# Altium footprint library SG__PCB_QFN_DFN.PcbLib: 60 footprints (part 3 of 4)
Each footprint in its own frame and in the unit in brackets; x right, y up, seen from the top. Pads: shape width x height; smd on the part's side, far side on the other; paste and mask are expansions set on the pad; w line width, h text height; cw(c..) or ccw(c..) is an arc to the next point about the centre after c.
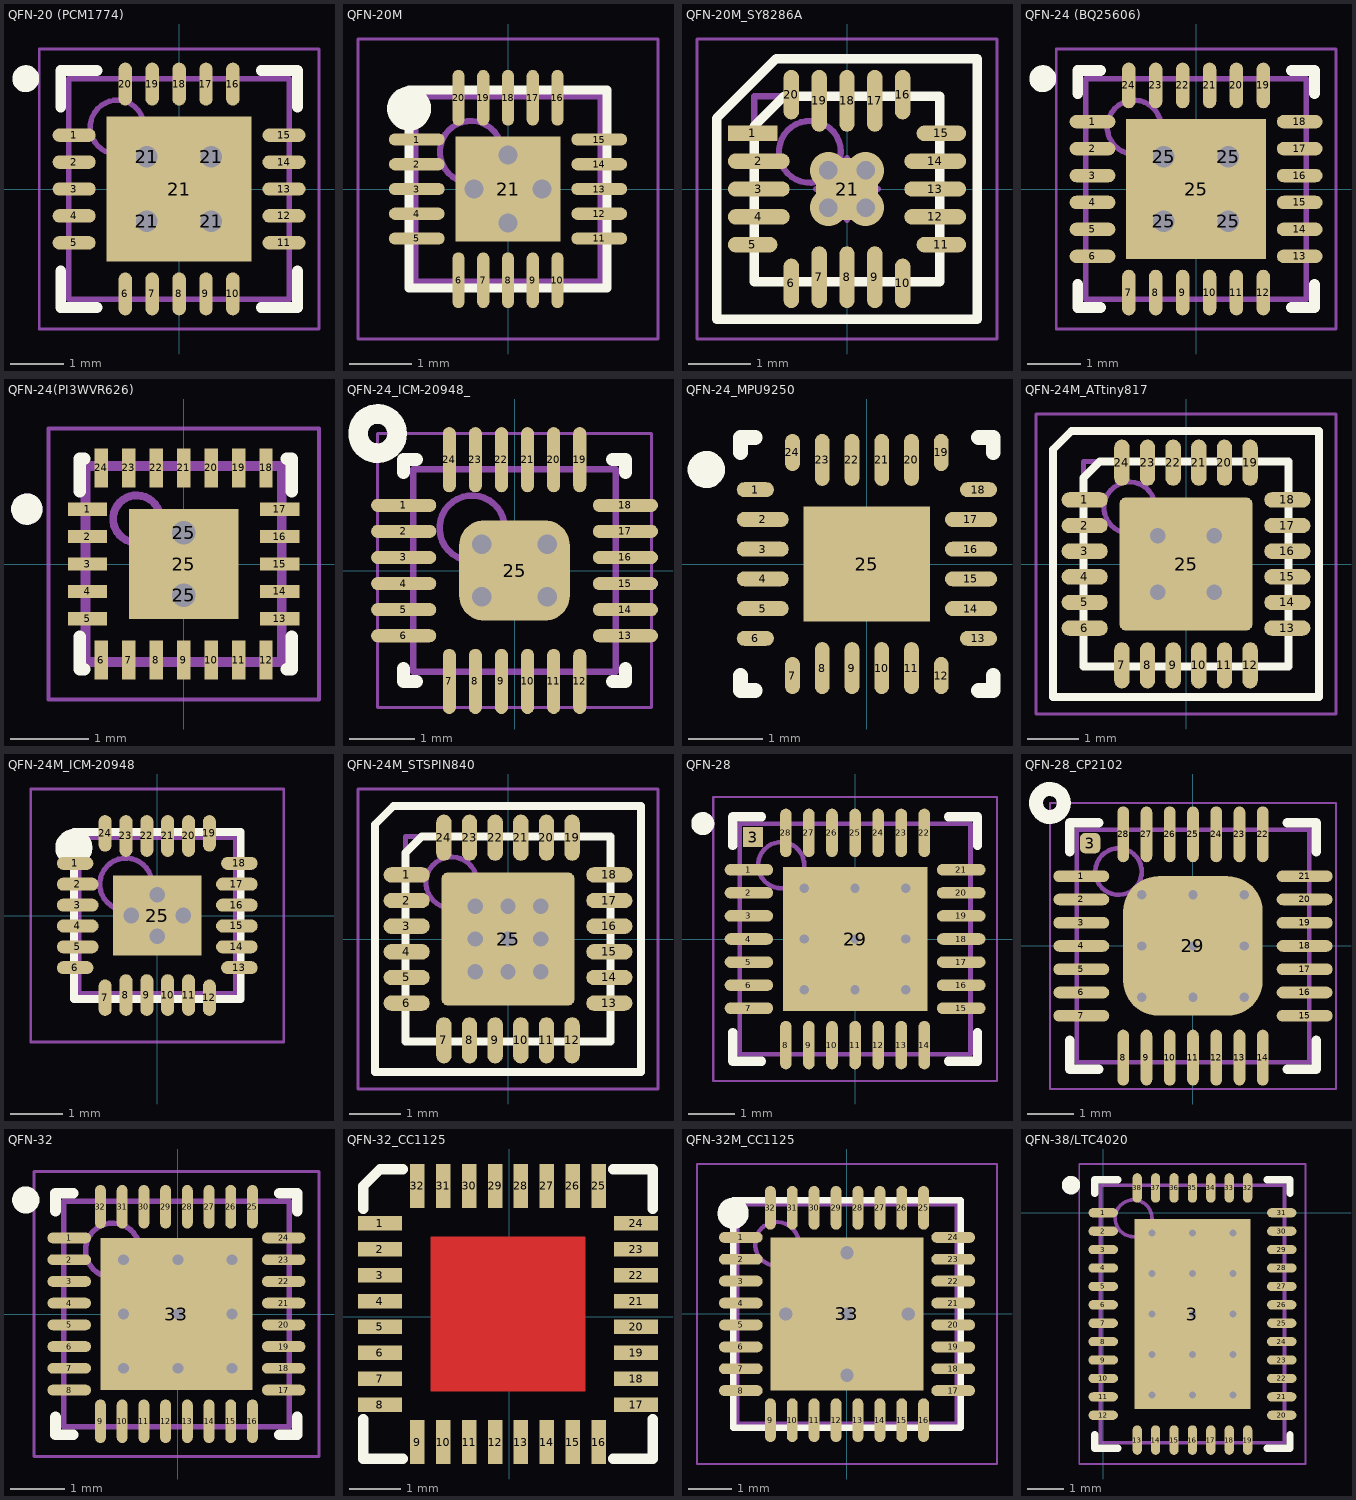
[diagram p2: the footprints below, top view; thin cyan lines are the x and y axes]

## QFN-20 (PCM1774) [mm] "QFN, 20-Leads, Body 4,00x4,00mm, Pitch 0,50mm, Thermal Pad 2,70x2,70mm, IPC Medium Density"
height 1
pads (25):
  oval 0.8x0.25 smd: 1(-1.95,1) 2(-1.95,0.5) 3(-1.95,0) 4(-1.95,-0.5) 5(-1.95,-1) 11(1.95,-1) 12(1.95,-0.5) 13(1.95,0) 14(1.95,0.5) 15(1.95,1)
  oval 0.25x0.8 smd: 6(-1,-1.95) 7(-0.5,-1.95) 8(0,-1.95) 9(0.5,-1.95) 10(1,-1.95) 16(1,1.95) 17(0.5,1.95) 18(0,1.95) 19(-0.5,1.95) 20(-1,1.95)
  round 0.8 hole 0.4: 21(-0.6,-0.6) 21(-0.6,0.6) 21(0.6,-0.6) 21(0.6,0.6)
  rect 2.7x2.7 smd: 21(0,0)
Top Overlay:
  circle w0.25: c-2.85,2.05 r0.125
  lines w0.2: -2.2,-1.525 -2.2,-2.2 -1.525,-2.2 ; -2.2,1.525 -2.2,2.2 -1.525,2.2 ; 1.525,-2.2 2.2,-2.2 2.2,-1.525 ; 1.525,2.2 2.2,2.2 2.2,1.525
Top Assembly:
  circle w0.1: c-1.15,1.15 r0.5
  lines w0.1: -2.05,-2.05 -2.05,2.05 2.05,2.05 2.05,-2.05 -2.05,-2.05
Top Courtyard:
  lines w0.05: -2.6,-2.6 -2.6,2.6 2.6,2.6 2.6,-2.6 -2.6,-2.6
  lines w0.1: -0.5,0 0.5,0 ; 0,-0.5 0,0.5
3D body "QFN-20 (PCM1774)__.step": height 1, standoff 0, extent -2.1,-2.1 2.1,2.1

## QFN-20M [mm] "QFN, 20-Leads, Body 3,00x3,00mm, Pitch 0,40mm, Thermal Pad 1,70x1,70mm, IPC Low Density"
height 0.85
pads (21):
  oval 0.9x0.2 smd: 1(-1.475,0.8) 2(-1.475,0.4) 3(-1.475,0) 4(-1.475,-0.4) 5(-1.475,-0.8) 11(1.475,-0.8) 12(1.475,-0.4) 13(1.475,0) 14(1.475,0.4) 15(1.475,0.8)
  oval 0.2x0.9 smd: 6(-0.8,-1.475) 7(-0.4,-1.475) 8(0,-1.475) 9(0.4,-1.475) 10(0.8,-1.475) 16(0.8,1.475) 17(0.4,1.475) 18(0,1.475) 19(-0.4,1.475) 20(-0.8,1.475)
  rect 1.7x1.7 smd: 21(0,0)
via -0.55,0 diameter 0.6 hole 0.3
via 0.55,0 diameter 0.6 hole 0.3
via 0,0.55 diameter 0.6 hole 0.3
via 0,-0.55 diameter 0.6 hole 0.3
Top Overlay:
  circle w0.356: c-1.6,1.3 r0.178
  lines w0.152: -1.6,-1.6 -1.6,1.6 1.6,1.6 1.6,-1.6 -1.6,-1.6
Top Solder:
  rectangle: 0.175,-0.825 0.825,-0.175
  region: 0.825,0.175 0.825,0.825 0.175,0.825 0.175,0.175
  region: -0.175,0.825 -0.825,0.825 -0.825,0.175 -0.175,0.175
  region: -0.825,-0.175 -0.825,-0.825 -0.175,-0.825 -0.175,-0.175
Top Assembly:
  circle w0.1: c-0.6,0.6 r0.5
  lines w0.1: -1.5,-1.5 1.5,-1.5 1.5,1.5 -1.5,1.5 -1.5,-1.5
Top Courtyard:
  lines w0.05: -2.425,-2.425 2.425,-2.425 2.425,2.425 -2.425,2.425 -2.425,-2.425
  lines w0.1: -0.5,0 0.5,0 ; 0,-0.5 0,0.5
3D body "QFN40P300X300X85_HS-21M.step": height 0.85, standoff 0, extent -1.501,-1.501 1.501,1.501

## QFN-20M_SY8286A [mm] "QFN, 20-Leads, Body 3,00x3,00mm, Pitch 0,45mm, Thermal Pad 1,00x1,00mm, IPC Low Density"
height 0.9
pads (21):
  rect 0.8x0.25 smd: 1(-1.525,0.9)
  oval 1x0.25 smd: 2(-1.425,0.45) 3(-1.425,0) 4(-1.425,-0.45) 12(1.425,-0.45) 13(1.425,0) 14(1.425,0.45)
  oval 0.8x0.25 smd: 5(-1.525,-0.9) 11(1.525,-0.9) 15(1.525,0.9)
  oval 0.25x0.8 smd: 6(-0.9,-1.525) 10(0.9,-1.525) 16(0.9,1.525) 20(-0.9,1.525)
  oval 0.25x1 smd: 7(-0.45,-1.425) 8(0,-1.425) 9(0.45,-1.425) 17(0.45,1.425) 18(0,1.425) 19(-0.45,1.425)
  rect 1x1 smd: 21(0,0)
via -0.3,0.3 diameter 0.6 hole 0.3
via 0.3,0.3 diameter 0.6 hole 0.3
via -0.3,-0.3 diameter 0.6 hole 0.3
via 0.3,-0.3 diameter 0.6 hole 0.3
Top Overlay:
  lines w0.152: -2.108,-2.108 0.889,-2.108 2.108,-2.108 2.108,-0.864 2.108,0.711 2.108,2.108 -1.143,2.108 -2.108,1.143 -2.108,-1.27 -2.108,-2.108 ; -1.499,-1.499 -1.499,1.016 -1.016,1.499 1.499,1.499 1.499,-1.499 -1.499,-1.499
Top Assembly:
  circle w0.1: c-0.6,0.6 r0.5
  lines w0.1: -1.5,-1.5 1.5,-1.5 1.5,1.5 -1.5,1.5 -1.5,-1.5
Top Courtyard:
  lines w0.05: -2.425,-2.425 2.425,-2.425 2.425,2.425 -2.425,2.425 -2.425,-2.425
  lines w0.1: -0.5,0 0.5,0 ; 0,-0.5 0,0.5
3D body "QFN45P300X300X90_HS-21M.step": height 0.9, standoff 0, extent -1.51,-1.51 1.51,1.51

## QFN-24 (BQ25606) [mm] "QFN, 24-Leads, Body 4,00x4,00mm, Pitch 0,50mm, Thermal Pad 2,60x2,60mm, IPC Medium Density"
height 1
pads (29):
  oval 0.85x0.25 smd: 1(-1.925,1.25) 2(-1.925,0.75) 3(-1.925,0.25) 4(-1.925,-0.25) 5(-1.925,-0.75) 6(-1.925,-1.25) 13(1.925,-1.25) 14(1.925,-0.75) 15(1.925,-0.25) 16(1.925,0.25) 17(1.925,0.75) 18(1.925,1.25)
  oval 0.25x0.85 smd: 7(-1.25,-1.925) 8(-0.75,-1.925) 9(-0.25,-1.925) 10(0.25,-1.925) 11(0.75,-1.925) 12(1.25,-1.925) 19(1.25,1.925) 20(0.75,1.925) 21(0.25,1.925) 22(-0.25,1.925) 23(-0.75,1.925) 24(-1.25,1.925)
  round 0.8 hole 0.4: 25(-0.6,-0.6) 25(-0.6,0.6) 25(0.6,-0.6) 25(0.6,0.6)
  rect 2.6x2.6 smd: 25(0,0)
Top Overlay:
  circle w0.25: c-2.85,2.05 r0.125
  lines w0.2: -2.2,-1.775 -2.2,-2.2 -1.775,-2.2 ; -2.2,1.775 -2.2,2.2 -1.775,2.2 ; 1.775,-2.2 2.2,-2.2 2.2,-1.775 ; 1.775,2.2 2.2,2.2 2.2,1.775
Top Assembly:
  circle w0.1: c-1.15,1.15 r0.5
  lines w0.1: -2.05,-2.05 2.05,-2.05 2.05,2.05 -2.05,2.05 -2.05,-2.05
Top Courtyard:
  lines w0.05: -2.6,-2.6 2.6,-2.6 2.6,2.6 -2.6,2.6 -2.6,-2.6
  lines w0.1: -0.5,0 0.5,0 ; 0,-0.5 0,0.5
3D body: height 1, standoff 0.05, extent -2.05,-2.05 2.05,2.05

## QFN-24(PI3WVR626) [mm]
height 0.5
pads (27):
  rect 0.5x0.17 smd mask+0.05: 1(-1.225,0.7) 2(-1.225,0.35) 3(-1.225,0) 4(-1.225,-0.35) 5(-1.225,-0.7) 13(1.225,-0.7) 14(1.225,-0.35) 15(1.225,0) 16(1.225,0.35) 17(1.225,0.7)
  rect 0.17x0.5 smd mask+0.05: 6(-1.05,-1.225) 7(-0.7,-1.225) 8(-0.35,-1.225) 9(0,-1.225) 10(0.35,-1.225) 11(0.7,-1.225) 12(1.05,-1.225) 18(1.05,1.225) 19(0.7,1.225) 20(0.35,1.225) 21(0,1.225) 22(-0.35,1.225) 23(-0.7,1.225) 24(-1.05,1.225)
  round 0.6 hole 0.3 mask+0: 25(0,-0.4) 25(0,0.4)
  rect 1.4x1.4 smd paste-0.257 mask+0.05: 25(0,0)
Top Overlay:
  circle w0.2: c-2,0.7 r0.1
  lines w0.16: -1.325,-0.925 -1.328,-1.342 -1.266,-1.344 ; -1.325,0.925 -1.328,1.342 -1.266,1.344 ; 1.316,-1.344 1.378,-1.342 1.375,-0.925 ; 1.316,1.344 1.378,1.342 1.375,0.925
Top Assembly:
  circle w0.2: c-2,0.7 r0.1
  circle w0.1: c-0.6,0.575 r0.3
  lines w0.127: -1.25,-1.25 1.25,-1.25 1.25,1.25 -1.25,1.25 -1.25,-1.25
Top Courtyard:
  lines w0.05: -1.725,-1.725 1.725,-1.725 1.725,1.725 -1.725,1.725 -1.725,-1.725
  lines w0.1: -0.5,0 0.5,0 ; 0,-0.5 0,0.5
3D body: height 0.5, standoff 0.05, extent -1.25,-1.275 1.3,1.275

## QFN-24_ICM-20948_ [mm] "Body 3,00x3,00mm, Pitch 0,40mm"
height 1.05
pads (25):
  oval 1x0.2 smd: 1(-1.7,1) 2(-1.7,0.6) 3(-1.7,0.2) 4(-1.7,-0.2) 5(-1.7,-0.6) 6(-1.7,-1) 13(1.7,-1) 14(1.7,-0.6) 15(1.7,-0.2) 16(1.7,0.2) 17(1.7,0.6) 18(1.7,1)
  oval 0.2x1 smd: 7(-1,-1.7) 8(-0.6,-1.7) 9(-0.2,-1.7) 10(0.2,-1.7) 11(0.6,-1.7) 12(1,-1.7) 19(1,1.7) 20(0.6,1.7) 21(0.2,1.7) 22(-0.2,1.7) 23(-0.6,1.7) 24(-1,1.7)
  rrect50% 1.7x1.54 smd: 25(0,0)
via -0.5,0.4 diameter 0.6 hole 0.3
via -0.5,-0.4 diameter 0.6 hole 0.3
via 0.5,-0.4 diameter 0.6 hole 0.3
via 0.5,0.4 diameter 0.6 hole 0.3
Top Overlay:
  circle w0.3: c-2.1,2.1 r0.3
  lines w0.2: -1.7,-1.5 -1.7,-1.7 -1.5,-1.7 ; -1.7,1.5 -1.7,1.7 -1.5,1.7 ; 1.5,-1.7 1.7,-1.7 1.7,-1.5 ; 1.5,1.7 1.7,1.7 1.7,1.5
Top Assembly:
  circle w0.1: c-0.65,0.65 r0.5
  lines w0.1: -1.55,-1.55 -1.55,1.55 1.55,1.55 1.55,-1.55 -1.55,-1.55
Top Courtyard:
  lines w0.05: -2.1,-2.1 -2.1,2.1 2.1,2.1 2.1,-2.1 -2.1,-2.1
  lines w0.1: -0.5,0 0.5,0 ; 0,-0.5 0,0.5
3D body: height 1.05, standoff 0.05, extent -1.55,-1.55 1.55,1.55

## QFN-24_MPU9250 [mm] "MPU9250"
height 1.05
pads (25):
  oval 0.5x0.2 smd: 1(-1.5,1) 6(-1.5,-1) 13(1.5,-1) 18(1.5,1)
  oval 0.7x0.2 smd: 2(-1.4,0.6) 3(-1.4,0.2) 4(-1.4,-0.2) 5(-1.4,-0.6) 14(1.4,-0.6) 15(1.4,-0.2) 16(1.4,0.2) 17(1.4,0.6)
  oval 0.2x0.5 smd: 7(-1,-1.5) 12(1,-1.5) 19(1,1.5) 24(-1,1.5)
  oval 0.2x0.7 smd: 8(-0.6,-1.4) 9(-0.2,-1.4) 10(0.2,-1.4) 11(0.6,-1.4) 20(0.6,1.4) 21(0.2,1.4) 22(-0.2,1.4) 23(-0.6,1.4)
  rect 1.7x1.54 smd: 25(0,0)
Top Overlay:
  circle w0.25: c-2.159,1.27 r0.125
  lines w0.2: -1.7,-1.5 -1.7,-1.7 -1.5,-1.7 ; -1.7,1.5 -1.7,1.7 -1.5,1.7 ; 1.5,-1.7 1.7,-1.7 1.7,-1.5 ; 1.5,1.7 1.7,1.7 1.7,1.5
3D body "MPU9250.STEP": height 1.05, standoff 0, extent -1.51,-1.51 1.51,1.51

## QFN-24M_ATtiny817 [mm] "QFN50P400X400X85_HS-25M, QFN, 24-Leads, Body 4,00x4,00mm, Pitch 0,50mm, Thermal Pad 2,60x2,60mm, IPC Low Density"
height 0.85
pads (29):
  oval 0.9x0.3 smd: 1(-1.975,1.25) 2(-1.975,0.75) 3(-1.975,0.25) 4(-1.975,-0.25) 5(-1.975,-0.75) 6(-1.975,-1.25) 13(1.975,-1.25) 14(1.975,-0.75) 15(1.975,-0.25) 16(1.975,0.25) 17(1.975,0.75) 18(1.975,1.25)
  oval 0.3x0.9 smd: 7(-1.25,-1.975) 8(-0.75,-1.975) 9(-0.25,-1.975) 10(0.25,-1.975) 11(0.75,-1.975) 12(1.25,-1.975) 19(1.25,1.975) 20(0.75,1.975) 21(0.25,1.975) 22(-0.25,1.975) 23(-0.75,1.975) 24(-1.25,1.975)
  rrect10% 2.6x2.6 smd paste-10: 25(0,0)
  rrect50% 0.9x0.9 on Top Paste: ""(-0.55,-0.55) ""(-0.55,0.55) ""(0.55,-0.55) ""(0.55,0.55)
via 0.55,0.55 diameter 0.6 hole 0.3
via -0.55,0.55 diameter 0.6 hole 0.3
via -0.55,-0.55 diameter 0.6 hole 0.3
via 0.55,-0.55 diameter 0.6 hole 0.3
Top Overlay:
  lines w0.152: -2.591,-2.591 1.245,-2.591 2.591,-2.591 2.591,2.591 -2.235,2.591 -2.591,2.235 -2.591,-2.591 ; -2,-2 2,-2 2,2 -1.683,2 -2,1.683 -2,-2
Top Assembly:
  circle w0.1: c-1.1,1.1 r0.5
  lines w0.1: -2,-2 2,-2 2,2 -2,2 -2,-2
Top Courtyard:
  lines w0.05: -2.925,-2.925 2.925,-2.925 2.925,2.925 -2.925,2.925 -2.925,-2.925
  lines w0.1: -0.5,0 0.5,0 ; 0,-0.5 0,0.5
3D body "QFN50P400X400X85_HS-25M_ATtiny817.step": height 0.85, standoff 0, extent -2.02,-2.02 2.02,2.02

## QFN-24M_ICM-20948 [mm] "QFN, 24-Leads, Body 3,00x3,00mm, Pitch 0,40mm, Thermal Pad 1,70x1,54mm, IPC Low Density"
height 1
pads (27):
  oval 0.7x0.25 smd: 1(-1.575,1) 6(-1.575,-1) 13(1.575,-1) 18(1.575,1)
  oval 0.8x0.25 smd: 2(-1.525,0.6) 3(-1.525,0.2) 4(-1.525,-0.2) 5(-1.525,-0.6) 14(1.525,-0.6) 15(1.525,-0.2) 16(1.525,0.2) 17(1.525,0.6)
  oval 0.25x0.7 smd: 7(-1,-1.575) 12(1,-1.575) 19(1,1.575) 24(-1,1.575)
  oval 0.25x0.8 smd: 8(-0.6,-1.525) 9(-0.2,-1.525) 10(0.2,-1.525) 11(0.6,-1.525) 20(0.6,1.525) 21(0.2,1.525) 22(-0.2,1.525) 23(-0.6,1.525)
  rect 1.7x1.54 smd: 25(0,0)
  rrect20% 0.2x0.2 on Top Solder paste-1 mask-0.05: ""(-0.45,-3.225) ""(2.775,-0.95)
via 0,-0.4 diameter 0.6 hole 0.3
via -0.5,0 diameter 0.6 hole 0.3
via 0,0.4 diameter 0.6 hole 0.3
via 0.5,0 diameter 0.6 hole 0.3
Top Overlay:
  circle w0.356: c-1.6,1.3 r0.178
  lines w0.152: -1.6,-1.6 1.6,-1.6 1.6,1.6 -1.6,1.6 -1.6,-1.6
Top Solder:
  rectangle: -0.8,-0.7 -0.2,-0.2
  rectangle: -0.8,0.2 -0.2,0.7
  rectangle: 0.2,0.2 0.8,0.7
  rectangle: 0.2,-0.7 0.8,-0.2
Top Assembly:
  circle w0.1: c-0.6,0.6 r0.5
  lines w0.1: -1.5,-1.5 1.5,-1.5 1.5,1.5 -1.5,1.5 -1.5,-1.5
Top Courtyard:
  lines w0.05: -2.425,-2.425 2.425,-2.425 2.425,2.425 -2.425,2.425 -2.425,-2.425
  lines w0.1: -0.5,0 0.5,0 ; 0,-0.5 0,0.5
3D body "QFN40P300X300X100_HS-25M.step": height 1, standoff 0, extent -1.501,-1.501 1.501,1.501

## QFN-24M_STSPIN840 [mm] "QFN50P400X400X85_HS-25M, QFN, 24-Leads, Body 4,00x4,00mm, Pitch 0,50mm, Thermal Pad 2,60x2,60mm, IPC Low Density"
height 0.85
pads (29):
  oval 0.9x0.3 smd: 1(-1.975,1.25) 2(-1.975,0.75) 3(-1.975,0.25) 4(-1.975,-0.25) 5(-1.975,-0.75) 6(-1.975,-1.25) 13(1.975,-1.25) 14(1.975,-0.75) 15(1.975,-0.25) 16(1.975,0.25) 17(1.975,0.75) 18(1.975,1.25)
  oval 0.3x0.9 smd: 7(-1.25,-1.975) 8(-0.75,-1.975) 9(-0.25,-1.975) 10(0.25,-1.975) 11(0.75,-1.975) 12(1.25,-1.975) 19(1.25,1.975) 20(0.75,1.975) 21(0.25,1.975) 22(-0.25,1.975) 23(-0.75,1.975) 24(-1.25,1.975)
  rrect10% 2.6x2.6 smd paste-10: 25(0,0)
  rrect20% 1.1x1.1 on Top Paste: ""(-0.635,-0.635) ""(-0.635,0.635) ""(0.635,-0.635) ""(0.635,0.635)
via 0.635,0 diameter 0.6 hole 0.3
via 0.635,-0.635 diameter 0.6 hole 0.3
via 0,-0.635 diameter 0.6 hole 0.3
via -0.635,-0.635 diameter 0.6 hole 0.3
via -0.635,0 diameter 0.6 hole 0.3
via -0.635,0.635 diameter 0.6 hole 0.3
via 0,0.635 diameter 0.6 hole 0.3
via 0.635,0.635 diameter 0.6 hole 0.3
via 0,0 diameter 0.6 hole 0.3
Top Overlay:
  lines w0.152: -2.591,-2.591 1.245,-2.591 2.591,-2.591 2.591,2.591 -2.235,2.591 -2.591,2.235 -2.591,-2.591 ; -2,-2 2,-2 2,2 -1.683,2 -2,1.683 -2,-2
Top Assembly:
  circle w0.1: c-1.1,1.1 r0.5
  lines w0.1: -2,-2 2,-2 2,2 -2,2 -2,-2
Top Courtyard:
  lines w0.05: -2.925,-2.925 2.925,-2.925 2.925,2.925 -2.925,2.925 -2.925,-2.925
  lines w0.1: -0.5,0 0.5,0 ; 0,-0.5 0,0.5
3D body "QFN50P400X400X85_HS-25M_ATtiny817.step": height 0.85, standoff 0, extent -2.02,-2.02 2.02,2.02

## QFN-28 [mm] "QFN, 28-Leads, Body 5,00x5,00mm, Pitch 0,50mm, Thermal Pad 3,13x3,13mm, IPC Medium Density"
height 1
pads (30):
  oval 1.05x0.25 smd: 1(-2.3,1.5) 2(-2.3,1) 3(-2.3,0.5) 4(-2.3,0) 5(-2.3,-0.5) 6(-2.3,-1) 7(-2.3,-1.5) 15(2.3,-1.5) 16(2.3,-1) 17(2.3,-0.5) 18(2.3,0) 19(2.3,0.5) 20(2.3,1) 21(2.3,1.5)
  rect 0.435x0.435 smd: 3(-2.21,2.21)
  oval 0.25x1.05 smd: 8(-1.5,-2.3) 9(-1,-2.3) 10(-0.5,-2.3) 11(0,-2.3) 12(0.5,-2.3) 13(1,-2.3) 14(1.5,-2.3) 22(1.5,2.3) 23(1,2.3) 24(0.5,2.3) 25(0,2.3) 26(-0.5,2.3) 27(-1,2.3) 28(-1.5,2.3)
  rect 3.13x3.13 smd: 29(0,0)
via 1.1,-1.1 diameter 0.5 hole 0.2
via 0,-1.1 diameter 0.5 hole 0.2
via -1.1,-1.1 diameter 0.5 hole 0.2
via 1.1,0 diameter 0.5 hole 0.2
via 0,0 diameter 0.5 hole 0.2
via -1.1,0 diameter 0.5 hole 0.2
via 1.1,1.1 diameter 0.5 hole 0.2
via 0,1.1 diameter 0.5 hole 0.2
via -1.1,1.1 diameter 0.5 hole 0.2
Top Overlay:
  circle w0.25: c-3.3,2.5 r0.125
  lines w0.2: -2.65,-2.025 -2.65,-2.65 -2.025,-2.65 ; -2.65,2.025 -2.65,2.65 -2.025,2.65 ; 2.025,-2.65 2.65,-2.65 2.65,-2.025 ; 2.025,2.65 2.65,2.65 2.65,2.025
Top Assembly:
  circle w0.1: c-1.6,1.6 r0.5
  lines w0.1: -2.5,-2.5 2.5,-2.5 2.5,2.5 -2.5,2.5 -2.5,-2.5
Top Courtyard:
  lines w0.05: -3.075,-3.075 -3.075,3.075 3.075,3.075 3.075,-3.075 -3.075,-3.075
  lines w0.1: -0.5,0 0.5,0 ; 0,-0.5 0,0.5
3D body: height 1, standoff 0.03, extent -2.5,-2.5 2.5,2.5

## QFN-28_CP2102 [mm] "Body 5,00x5,00mm, Pitch 0,50mm"
height 1
pads (30):
  oval 1.2x0.25 smd: 1(-2.4,1.5) 2(-2.4,1) 3(-2.4,0.5) 4(-2.4,0) 5(-2.4,-0.5) 6(-2.4,-1) 7(-2.4,-1.5) 15(2.4,-1.5) 16(2.4,-1) 17(2.4,-0.5) 18(2.4,0) 19(2.4,0.5) 20(2.4,1) 21(2.4,1.5)
  rrect50% 0.435x0.435 smd: 3(-2.21,2.21)
  oval 0.25x1.2 smd: 8(-1.5,-2.4) 9(-1,-2.4) 10(-0.5,-2.4) 11(0,-2.4) 12(0.5,-2.4) 13(1,-2.4) 14(1.5,-2.4) 22(1.5,2.4) 23(1,2.4) 24(0.5,2.4) 25(0,2.4) 26(-0.5,2.4) 27(-1,2.4) 28(-1.5,2.4)
  rrect50% 3x3 smd: 29(0,0)
via -1.1,1.1 diameter 0.5 hole 0.2
via 0,1.1 diameter 0.5 hole 0.2
via 1.1,1.1 diameter 0.5 hole 0.2
via -1.1,0 diameter 0.5 hole 0.2
via 0,0 diameter 0.5 hole 0.2
via 1.1,0 diameter 0.5 hole 0.2
via -1.1,-1.1 diameter 0.5 hole 0.2
via 0,-1.1 diameter 0.5 hole 0.2
via 1.1,-1.1 diameter 0.5 hole 0.2
Top Overlay:
  circle w0.3: c-3.075,3.075 r0.3
  lines w0.2: -2.65,-2.025 -2.65,-2.65 -2.025,-2.65 ; -2.65,2.025 -2.65,2.65 -2.025,2.65 ; 2.025,-2.65 2.65,-2.65 2.65,-2.025 ; 2.025,2.65 2.65,2.65 2.65,2.025
Top Assembly:
  circle w0.1: c-1.6,1.6 r0.5
  lines w0.1: -2.5,-2.5 2.5,-2.5 2.5,2.5 -2.5,2.5 -2.5,-2.5
Top Courtyard:
  lines w0.05: -3.075,-3.075 3.075,-3.075 3.075,3.075 -3.075,3.075 -3.075,-3.075
  lines w0.1: -0.5,0 0.5,0 ; 0,-0.5 0,0.5
3D body: height 1, standoff 0.03, extent -2.5,-2.5 2.5,2.5

## QFN-32 [mm] ", Pitch 0,40mm, Thermal Pad 2,80x2,80mm, IPC Medium Density"
height 0.8
pads (33):
  oval 0.8x0.2 smd: 1(-2,1.4) 2(-2,1) 3(-2,0.6) 4(-2,0.2) 5(-2,-0.2) 6(-2,-0.6) 7(-2,-1) 8(-2,-1.4) 17(1.95,-1.4) 18(1.95,-1) 19(1.95,-0.6) 20(1.95,-0.2) 21(1.95,0.2) 22(1.95,0.6) 23(1.95,1) 24(1.95,1.4)
  oval 0.2x0.8 smd: 9(-1.425,-1.975) 10(-1.025,-1.975) 11(-0.625,-1.975) 12(-0.225,-1.975) 13(0.175,-1.975) 14(0.575,-1.975) 15(0.975,-1.975) 16(1.375,-1.975) 25(1.375,1.975) 26(0.975,1.975) 27(0.575,1.975) 28(0.175,1.975) 29(-0.225,1.975) 30(-0.625,1.975) 31(-1.025,1.975) 32(-1.425,1.975)
  rect 2.8x2.8 smd: 33(-0.025,0)
via 0,0 diameter 0.5 hole 0.2
via 1,0 diameter 0.5 hole 0.2
via 1,1 diameter 0.5 hole 0.2
via 0,1 diameter 0.5 hole 0.2
via -1,1 diameter 0.5 hole 0.2
via -1,0 diameter 0.5 hole 0.2
via -1,-1 diameter 0.5 hole 0.2
via 0,-1 diameter 0.5 hole 0.2
via 1,-1 diameter 0.5 hole 0.2
Top Overlay:
  circle w0.25: c-2.8,2.1 r0.125
  lines w0.2: -2.25,-1.9 -2.25,-2.225 -1.925,-2.225 ; -2.25,1.9 -2.25,2.225 -1.925,2.225 ; 1.875,-2.225 2.2,-2.225 2.2,-1.9 ; 1.875,2.225 2.2,2.225 2.2,1.9
Top Assembly:
  circle w0.1: c-1.2,1.175 r0.5
  lines w0.1: -2.1,-2.075 -2.1,2.075 2.05,2.075 2.05,-2.075 -2.1,-2.075
Top Courtyard:
  lines w0.05: -2.65,-2.625 -2.65,2.625 2.6,2.625 2.6,-2.625 -2.65,-2.625
  lines w0.1: -0.525,0 0.475,0 ; -0.025,-0.5 -0.025,0.5
3D body: height 0.8, standoff 0.05, extent -2.1,-2.075 2.05,2.075

## QFN-32_CC1125 [mm] "CC1125 PVQFN"
height 1.1
pads (32):
  rect 0.85x0.28 smd: 1(-2.5,1.8) 2(-2.5,1.3) 3(-2.5,0.8) 4(-2.5,0.3) 5(-2.5,-0.2) 6(-2.5,-0.7) 7(-2.5,-1.2) 8(-2.5,-1.7) 17(2.45,-1.7) 18(2.45,-1.2) 19(2.45,-0.7) 20(2.45,-0.2) 21(2.45,0.3) 22(2.45,0.8) 23(2.45,1.3) 24(2.45,1.8)
  rect 0.28x0.85 smd: 9(-1.775,-2.425) 10(-1.275,-2.425) 11(-0.775,-2.425) 12(-0.275,-2.425) 13(0.225,-2.425) 14(0.725,-2.425) 15(1.225,-2.425) 16(1.725,-2.425) 25(1.725,2.525) 26(1.225,2.525) 27(0.725,2.525) 28(0.225,2.525) 29(-0.275,2.525) 30(-0.775,2.525) 31(-1.275,2.525) 32(-1.775,2.525)
Top Layer:
  region: -1.525,1.55 -1.525,-1.45 1.475,-1.45 1.475,1.55
Top Overlay:
  lines w0.2: -2.825,-1.98 -2.825,-2.75 -2.055,-2.75 ; -2.825,2.08 -2.825,2.525 -2.5,2.85 -2.055,2.85 ; 2.005,-2.75 2.775,-2.75 2.775,-1.98 ; 2.005,2.85 2.775,2.85 2.775,2.08

## QFN-32M_CC1125 [mm] "QFN, 32-Leads, Body 5,00x5,00mm, Pitch 0,50mm, Thermal Pad 3,50x3,50mm, IPC Low Density"
height 1
pads (37):
  oval 1x0.25 smd: 1(-2.425,1.75) 2(-2.425,1.25) 3(-2.425,0.75) 4(-2.425,0.25) 5(-2.425,-0.25) 6(-2.425,-0.75) 7(-2.425,-1.25) 8(-2.425,-1.75) 17(2.425,-1.75) 18(2.425,-1.25) 19(2.425,-0.75) 20(2.425,-0.25) 21(2.425,0.25) 22(2.425,0.75) 23(2.425,1.25) 24(2.425,1.75)
  oval 0.25x1 smd: 9(-1.75,-2.425) 10(-1.25,-2.425) 11(-0.75,-2.425) 12(-0.25,-2.425) 13(0.25,-2.425) 14(0.75,-2.425) 15(1.25,-2.425) 16(1.75,-2.425) 25(1.75,2.425) 26(1.25,2.425) 27(0.75,2.425) 28(0.25,2.425) 29(-0.25,2.425) 30(-0.75,2.425) 31(-1.25,2.425) 32(-1.75,2.425)
  rect 3.5x3.5 smd: 33(0,0)
  rect 1.49x1.49 on Top Solder paste-1 mask-0.05: ""(-0.9,-0.9) ""(-0.9,0.9) ""(0.9,-0.9) ""(0.9,0.9)
via -1.4,0 diameter 0.6 hole 0.3
via 0,-1.4 diameter 0.6 hole 0.3
via 1.4,0 diameter 0.6 hole 0.3
via 0,1.4 diameter 0.6 hole 0.3
via 0,0 diameter 0.6 hole 0.3
Top Overlay:
  circle w0.356: c-2.6,2.3 r0.178
  lines w0.152: -2.6,-2.6 2.6,-2.6 2.6,2.6 -2.6,2.6 -2.6,-2.6
Top Assembly:
  circle w0.1: c-1.6,1.6 r0.5
  lines w0.1: -2.5,-2.5 -2.5,2.5 2.5,2.5 2.5,-2.5 -2.5,-2.5
Top Courtyard:
  lines w0.05: -3.425,-3.425 -3.425,3.425 3.425,3.425 3.425,-3.425 -3.425,-3.425
  lines w0.1: -0.5,0 0.5,0 ; 0,-0.5 0,0.5
3D body "QFN50P500X500X100_HS-33M.step": height 1, standoff 0, extent -2.501,-2.501 2.501,2.501

## QFN-38/LTC4020 [mm] "QFN, 38-Leads, Body 5,00x7,00mm, Pitch 0,50mm, Thermal Pad 3,15x5,15mm, IPC Medium Density"
height 0.75
pads (39):
  oval 0.8x0.25 smd: 1(0,0) 2(0,-0.5) 3(0,-1) 4(0,-1.5) 5(0,-2) 6(0,-2.5) 7(0,-3) 8(0,-3.5) 9(0,-4) 10(0,-4.5) 11(0,-5) 12(0,-5.5) 20(4.85,-5.5) 21(4.85,-5) 22(4.85,-4.5) 23(4.85,-4) 24(4.85,-3.5) 25(4.85,-3) 26(4.85,-2.5) 27(4.85,-2) 28(4.85,-1.5) 29(4.85,-1) 30(4.85,-0.5) 31(4.85,0)
  rect 3.15x5.15 smd: 3(2.425,-2.75)
  oval 0.25x0.8 smd: 13(0.925,-6.175) 14(1.425,-6.175) 15(1.925,-6.175) 16(2.425,-6.175) 17(2.925,-6.175) 18(3.425,-6.175) 19(3.925,-6.175) 32(3.925,0.675) 33(3.425,0.675) 34(2.925,0.675) 35(2.425,0.675) 36(1.925,0.675) 37(1.425,0.675) 38(0.925,0.675)
via 1.325,-0.55 diameter 0.5 hole 0.2
via 2.425,-0.55 diameter 0.5 hole 0.2
via 3.525,-0.55 diameter 0.5 hole 0.2
via 1.325,-1.65 diameter 0.5 hole 0.2
via 2.425,-1.65 diameter 0.5 hole 0.2
via 3.525,-1.65 diameter 0.5 hole 0.2
via 1.325,-2.75 diameter 0.5 hole 0.2
via 2.425,-2.75 diameter 0.5 hole 0.2
via 3.525,-2.75 diameter 0.5 hole 0.2
via 1.325,-3.85 diameter 0.5 hole 0.2
via 2.425,-3.85 diameter 0.5 hole 0.2
via 3.525,-3.85 diameter 0.5 hole 0.2
via 1.325,-4.95 diameter 0.5 hole 0.2
via 2.425,-4.95 diameter 0.5 hole 0.2
via 3.525,-4.95 diameter 0.5 hole 0.2
Top Overlay:
  circle w0.25: c-0.875,0.75 r0.125
  lines w0.2: -0.225,-6.025 -0.225,-6.4 0.4,-6.4 ; -0.225,0.525 -0.225,0.9 0.4,0.9 ; 4.45,-6.4 5.075,-6.4 5.075,-6.025 ; 4.45,0.9 5.075,0.9 5.075,0.525
Top Assembly:
  circle w0.1: c0.825,-0.15 r0.5
  lines w0.1: -0.075,-6.25 -0.075,0.75 4.925,0.75 4.925,-6.25 -0.075,-6.25
Top Courtyard:
  lines w0.05: -0.65,-6.825 -0.65,1.325 5.5,1.325 5.5,-6.825 -0.65,-6.825
  lines w0.1: 1.925,-2.75 2.925,-2.75 ; 2.425,-3.25 2.425,-2.25
3D body: height 0.75, standoff 0.05, extent -0.075,-6.25 4.925,0.75